# Altium integrated library Maxim Sensors.IntLib: 1171 symbols (part 8 of 61)
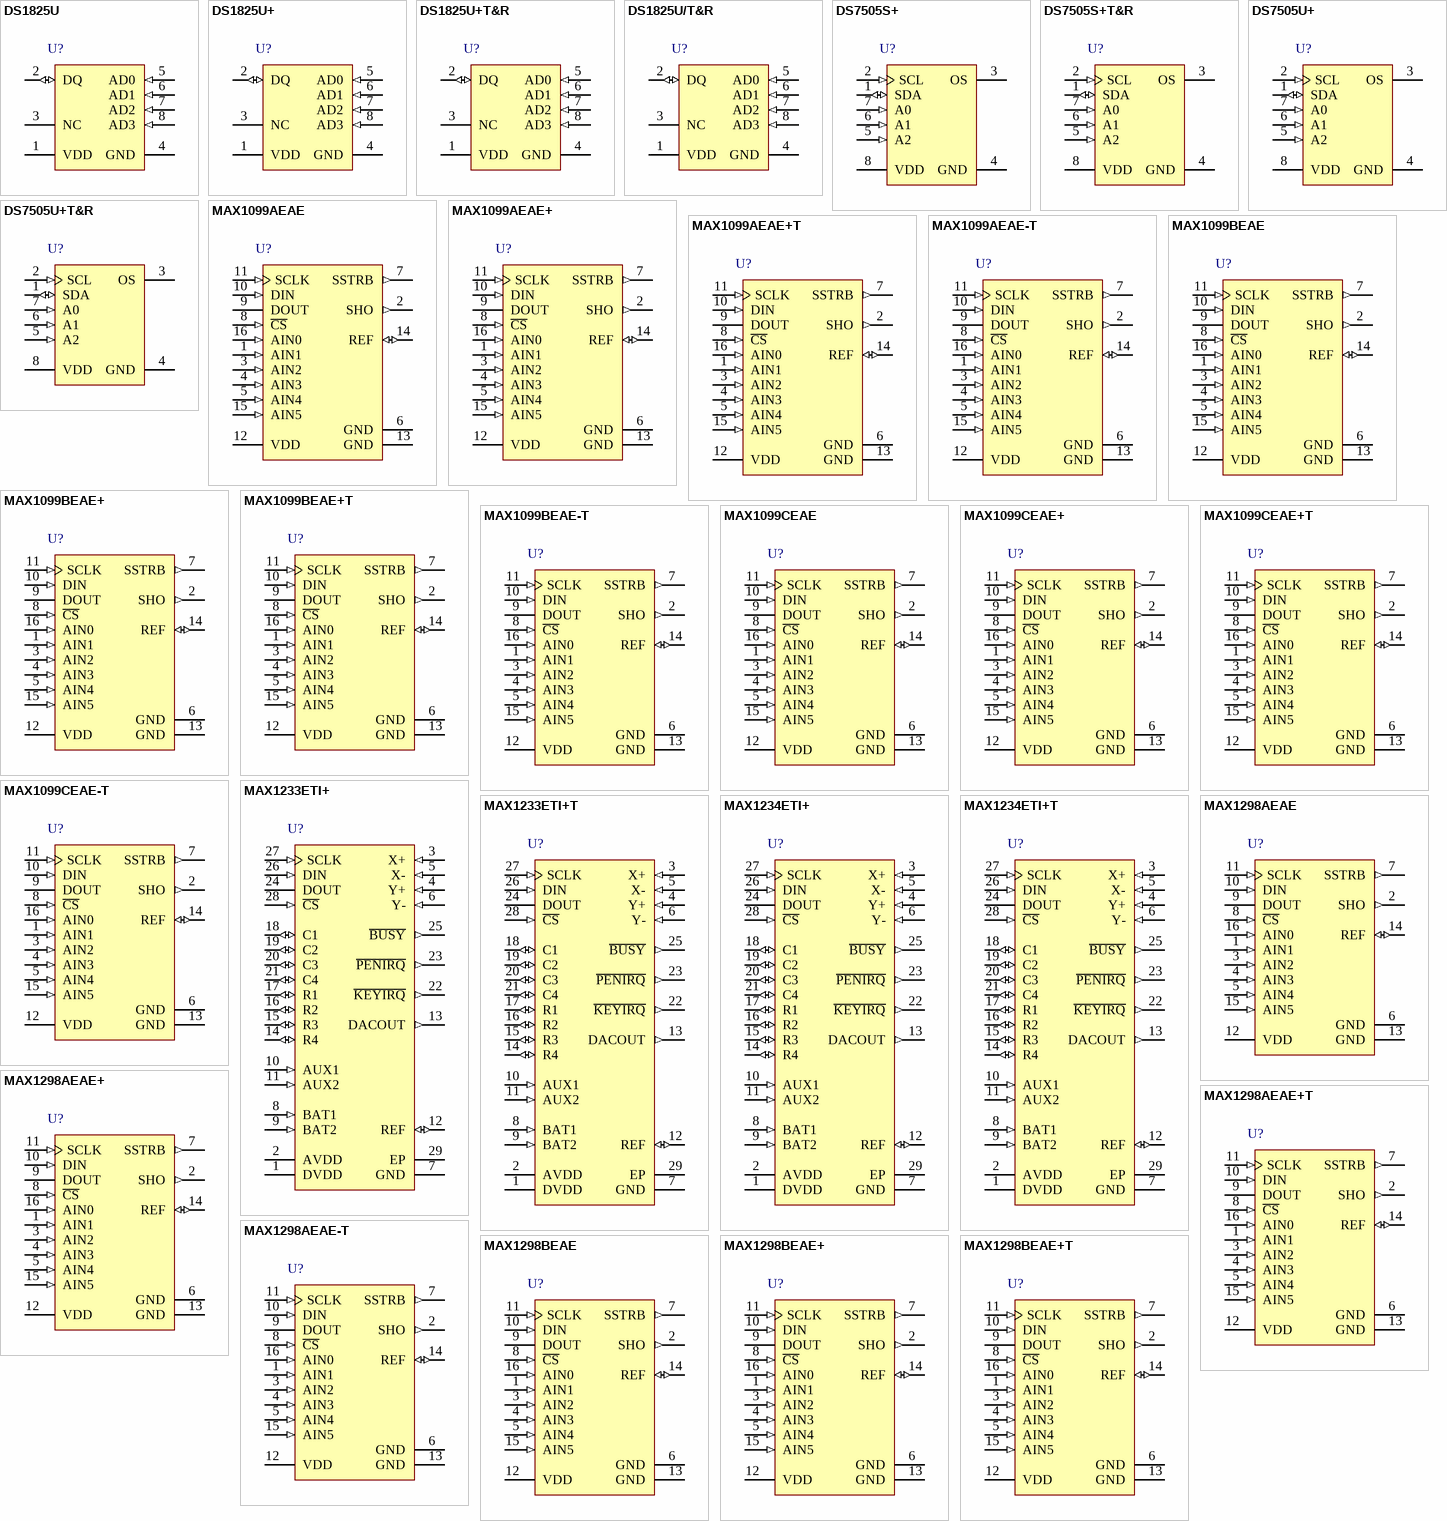
[diagram p40: symbols DS1825U to MAX1298BEAE+T]

## MAX1099CEAE+T
designator U?
Serial-Output Temperature Sensor with Five-Channel ADC, 10 Bits Temperature Resolution, -40 to 85 degC, 16-Pin SOP (A16+3), Pb-Free, Tape and Reel; Generic Part Number: MAX1099C; PartNumber: MAX1099CEAE+T; Interface: 3-Wire/SPI; Parasite Pwr.: No; DatasheetVersion: Rev. 0; PackageVersion: Rev. C, 02/2010; PackageReference: A16+3; PackageDescription: 16-Pin Shrink Small-Outline Package, Body 5.29 x 6.2 mm, Pitch 0.65 mm; Supplier 1: Digi-Key; Supplier Part Number 1: MAX1099CEAE+T-ND; Supplier 2: Mouser; Supplier Part Number 2: 700-MAX1099CEAE+T; Packing: Tape and Reel; Mounting Technology: Surface Mount; Code_JEDEC: MO-150; ComponentLink1Description: Manufacturer URL; ComponentLink1URL: http://www.maximintegrated.com/; ComponentLink2Description: Datasheet; ComponentLink2URL: http://datasheets.maximintegrated.com/en/ds/MAX1098-MAX1099C.pdf; ComponentLink3Description: Package Specification; ComponentLink3URL: http://pdfserv.maximintegrated.com/package_dwgs/21-0056.PDF
footprint MAXM-A16+3_N (SOP, 16-Leads, Body 6.2x5.29mm, Pitch 0.65mm, IPC Medium Density)
footprint MAXM-A16+3_L (SOP, 16-Leads, Body 6.2x5.29mm, Pitch 0.65mm, IPC High Density)
footprint MAXM-A16+3_M (SOP, 16-Leads, Body 6.2x5.29mm, Pitch 0.65mm, IPC Low Density)
pins: 1 AIN1 (in) "Analog Input 1. Negative differential input relative to AIN0 or positive differential input relative to AIN5 (Table 5). Connect to the cathode of external diode 1 for remote temperature sensing", 2 SHO (out) "Shield Output. Used to suppress leakage currents at the anodes of remote temperature sensors (see Remote Diode Shielding). May also be connected to the shield of twisted-pair input cables used for remote temperature (See Datasheet)", 3 AIN2 (in) "Analog Input 2. Positive differential input relative to AIN3 or positive differential input relative to AIN5 (Table 5). Connect to the anode of external diode 2 for remote temperature sensing.", 4 AIN3 (in) "Analog Input 3. Negative differential input relative to AIN2 or positive differential input relative to AIN5 (Table 5). Connect to the cathode of external diode 2 for remote temperature sensing.", 5 AIN4 (in) "Analog input 4. Positive differential input relative to AIN5 (Table 5).", 6 GND (power) "Ground. Connect to pin 13.", 7 SSTRB (out) "Serial Strobe Output. SSTRB goes low at the beginning of an A/D conversion, and it goes high when the conversion is finished.", 8 ~{CS} (in) "Active-Low Chip Select. Data will not be clocked into DIN unless C\S\ is low. When C\S\ is high, DOUT is at high impedance.", 9 DOUT (hiz) "Serial Data Output. DOUT transitions on the falling edge of SCLK.", 10 DIN (in) "Serial Data Input. DIN latches data on the rising edge of SCLK. 11 SCLK Serial Clock Input. Clocks data in and out of the serial interface.", 11 SCLK (in) "Serial Clock Input. Clocks data in and out of the serial interface.", 12 VDD (power) "Positive Supply Voltage. Bypass with a 0.1uF capacitor to GND (pin 13).", 13 GND (power) "Ground (star ground)", 14 REF (io) "Reference-Buffer Output/ADC Reference Input. Reference voltage for A/D conversion. Bypass to GND (pin 13) with a 0.1uF capacitor. Select reference mode by writing to configuration byte (Table 2).", 15 AIN5 (in) "Analog Input 5. Negative differential input relative to AIN0-AIN4 (Table 5).", 16 AIN0 (in) "Analog Input 0. Positive differential input relative to AIN1 or positive differential input relative to AIN5 (Table 5). Connect to the anode of external diode 1 for remote temperature sensing."

## MAX1099CEAE-T
designator U?
Serial-Output Temperature Sensor with Five-Channel ADC, 10 Bits Temperature Resolution, -40 to 85 degC, 16-Pin SOP (A16-3), Tape and Reel; Generic Part Number: MAX1099C; PartNumber: MAX1099CEAE-T; Interface: 3-Wire/SPI; Parasite Pwr.: No; DatasheetVersion: Rev. 0; PackageVersion: Rev. C, 02/2010; PackageReference: A16-3; PackageDescription: 16-Pin Shrink Small-Outline Package, Body 5.29 x 6.2 mm, Pitch 0.65 mm; Supplier 1: Mouser; Supplier Part Number 1: N/A; Packing: Tape and Reel; Mounting Technology: Surface Mount; Code_JEDEC: MO-150; ComponentLink1Description: Manufacturer URL; ComponentLink1URL: http://www.maximintegrated.com/; ComponentLink2Description: Datasheet; ComponentLink2URL: http://datasheets.maximintegrated.com/en/ds/MAX1098-MAX1099C.pdf; ComponentLink3Description: Package Specification; ComponentLink3URL: http://pdfserv.maximintegrated.com/package_dwgs/21-0056.PDF
footprint MAXM-A16-3_N (SOP, 16-Leads, Body 6.2x5.29mm, Pitch 0.65mm, IPC Medium Density)
footprint MAXM-A16-3_L (SOP, 16-Leads, Body 6.2x5.29mm, Pitch 0.65mm, IPC High Density)
footprint MAXM-A16-3_M (SOP, 16-Leads, Body 6.2x5.29mm, Pitch 0.65mm, IPC Low Density)
pins: 1 AIN1 (in) "Analog Input 1. Negative differential input relative to AIN0 or positive differential input relative to AIN5 (Table 5). Connect to the cathode of external diode 1 for remote temperature sensing", 2 SHO (out) "Shield Output. Used to suppress leakage currents at the anodes of remote temperature sensors (see Remote Diode Shielding). May also be connected to the shield of twisted-pair input cables used for remote temperature (See Datasheet)", 3 AIN2 (in) "Analog Input 2. Positive differential input relative to AIN3 or positive differential input relative to AIN5 (Table 5). Connect to the anode of external diode 2 for remote temperature sensing.", 4 AIN3 (in) "Analog Input 3. Negative differential input relative to AIN2 or positive differential input relative to AIN5 (Table 5). Connect to the cathode of external diode 2 for remote temperature sensing.", 5 AIN4 (in) "Analog input 4. Positive differential input relative to AIN5 (Table 5).", 6 GND (power) "Ground. Connect to pin 13.", 7 SSTRB (out) "Serial Strobe Output. SSTRB goes low at the beginning of an A/D conversion, and it goes high when the conversion is finished.", 8 ~{CS} (in) "Active-Low Chip Select. Data will not be clocked into DIN unless C\S\ is low. When C\S\ is high, DOUT is at high impedance.", 9 DOUT (hiz) "Serial Data Output. DOUT transitions on the falling edge of SCLK.", 10 DIN (in) "Serial Data Input. DIN latches data on the rising edge of SCLK. 11 SCLK Serial Clock Input. Clocks data in and out of the serial interface.", 11 SCLK (in) "Serial Clock Input. Clocks data in and out of the serial interface.", 12 VDD (power) "Positive Supply Voltage. Bypass with a 0.1uF capacitor to GND (pin 13).", 13 GND (power) "Ground (star ground)", 14 REF (io) "Reference-Buffer Output/ADC Reference Input. Reference voltage for A/D conversion. Bypass to GND (pin 13) with a 0.1uF capacitor. Select reference mode by writing to configuration byte (Table 2).", 15 AIN5 (in) "Analog Input 5. Negative differential input relative to AIN0-AIN4 (Table 5).", 16 AIN0 (in) "Analog Input 0. Positive differential input relative to AIN1 or positive differential input relative to AIN5 (Table 5). Connect to the anode of external diode 1 for remote temperature sensing."

## MAX1233ETI+
designator U?
4 Channels, 2.7 to 3.6 V, 4-Wire Touch-Screen Controller with Keypad Interface and Temperature Sensor, -40 to +85 degC, 28-Pin QFN (T2855+6), Pb-Free; Generic Part Number: MAX1233; PartNumber: MAX1233ETI+; Channels: 4; Controller Type: Resistive; EV Kit: Yes; Interface: Microwire, QSPI ,SPI; DatasheetVersion: Rev. 4; PackageVersion: Rev. Q, 09/2011; PackageReference: T2855+6; PackageDescription: 28-Pin Thin Quad Flatpack, No Leads, Body 5 x 5 mm, Pitch 0.5 mm; Supplier 1: Digi-Key; Supplier Part Number 1: MAX1233ETI+-ND; Supplier 2: Mouser; Supplier Part Number 2: 700-MAX1233ETI; Mounting Technology: Surface Mount; ComponentLink1Description: Manufacturer URL; ComponentLink1URL: http://www.maximintegrated.com/; ComponentLink2Description: Datasheet; ComponentLink2URL: http://datasheets.maximintegrated.com/en/ds/MAX1233-MAX1234.pdf; ComponentLink3Description: Package Specification; ComponentLink3URL: http://pdfserv.maximintegrated.com/package_dwgs/21-0140.PDF
footprint MAXM-T2855+6_N (QFN, 28-Leads, Body 5x5mm, Pitch 0.5mm, Thermal Pad 3.25x3.25mm, IPC Medium Density)
footprint MAXM-T2855+6_L (QFN, 28-Leads, Body 5x5mm, Pitch 0.5mm, Thermal Pad 3.25x3.25mm, IPC High Density)
footprint MAXM-T2855+6_M (QFN, 28-Leads, Body 5x5mm, Pitch 0.5mm, Thermal Pad 3.25x3.25mm, IPC Low Density)
pins: 1 DVDD (power) "Positive Digital Supply Voltage, +2.7V to +3.6V for MAX1233, +4.75V to +5.25V for MAX1234. Bypass with a 0.1uF capacitor. Must be within 300mV of AVDD.", 2 AVDD (power) "Positive Analog Supply Voltage, +2.7V to +3.6V for MAX1233, +4.75V to +5.25V for MAX1234. Bypass with a 0.1uF capacitor. Must be within 300mV of DVDD.", 3 X+ (in) "X+ Position Input", 4 Y+ (in) "Y+ Position Input", 5 X- (in) "X- Position Input", 6 Y- (in) "Y- Position Input", 7 GND (power) "Analog and Digital Ground", 8 BAT1 (in) "Battery Monitoring Input 1. Measures battery voltages up to 6V.", 9 BAT2 (in) "Battery Monitoring Input 2. Measures battery voltages up to 6V.", 10 AUX1 (in) "Auxiliary Analog Input 1 to ADC. Measures analog voltages from zero to VREF.", 11 AUX2 (in) "Auxiliary Analog Input 2 to ADC. Measures analog voltages from zero to VREF.", 12 REF (io) "Voltage Reference Output/Input. Reference voltage for analog-to-digital conversion. In internal reference mode, the reference buffer provides a 2.5V or 1.0V nominal output. In external reference mode, apply a reference (See Datasheet)", 13 DACOUT (out) "DAC Voltage Output; 0.9 x AVDD Full Scale", 14 R4 (io) "Keypad Row 4. Can be reconfigured as GPIO3.", 15 R3 (io) "Keypad Row 3. Can be reconfigured as GPIO2.", 16 R2 (io) "Keypad Row 2. Can be reconfigured as GPIO1.", 17 R1 (io) "Keypad Row 1. Can be reconfigured as GPIO0.", 18 C1 (io) "Keypad Column 1. Can be reconfigured as GPIO4.", 19 C2 (io) "Keypad Column 2. Can be reconfigured as GPIO5.", 20 C3 (io) "Keypad Column 3. Can be reconfigured as GPIO6.", 21 C4 (io) "Keypad Column 4. Can be reconfigured as GPIO7.", 22 ~{KEYIRQ} (out) "Active-Low Keypad Interrupt. K\E\Y\I\R\Q\ is low when a key press is detected.", 23 ~{PENIRQ} (out) "Active-Low Pen Touch Interrupt. P\E\N\I\R\Q\ is low when a screen touch is detected.", 24 DOUT (hiz) "Serial Data Output. Data is clocked out at SCLK falling edge. High impedance when C\S\ is high.", 25 ~{BUSY} (out) "Active-Low Busy Output. B\U\S\Y\ goes low and stays low during each functional operation. The host controller should wait until B\U\S\Y\ is high again before using the serial interface", 26 DIN (in) "Serial Data Input. Data is clocked in on the rising edge of SCLK.", 27 SCLK (in) "Serial Clock Input. Clocks data in and out of the serial interface and sets the conversion speed (duty cycle must be 30% to 70%).", 28 ~{CS} (in) "Active-Low Chip Select. Data is not clocked into DIN unless C\S\ is low. When C\S\ is high, DOUT is high impedance", 29 EP (power) "Exposed Pad. Internally connected to GND. Connect to a large ground plane to maximize thermal performance. Not intended as an electrical connection point."

## MAX1233ETI+T
designator U?
4 Channels, 2.7 to 3.6 V, 4-Wire Touch-Screen Controller with Keypad Interface and Temperature Sensor, -40 to +85 degC, 28-Pin QFN (T2855+6), Pb-Free, Tape and Reel; Generic Part Number: MAX1233; PartNumber: MAX1233ETI+T; Channels: 4; Controller Type: Resistive; EV Kit: Yes; Interface: Microwire, QSPI ,SPI; DatasheetVersion: Rev. 4; PackageVersion: Rev. Q, 09/2011; PackageReference: T2855+6; PackageDescription: 28-Pin Thin Quad Flatpack, No Leads, Body 5 x 5 mm, Pitch 0.5 mm; Supplier 1: Digi-Key; Supplier Part Number 1: MAX1233ETI+T-ND; Supplier 2: Mouser; Supplier Part Number 2: 700-MAX1233ETIT; Packing: Tape and Reel; Mounting Technology: Surface Mount; ComponentLink1Description: Manufacturer URL; ComponentLink1URL: http://www.maximintegrated.com/; ComponentLink2Description: Datasheet; ComponentLink2URL: http://datasheets.maximintegrated.com/en/ds/MAX1233-MAX1234.pdf; ComponentLink3Description: Package Specification; ComponentLink3URL: http://pdfserv.maximintegrated.com/package_dwgs/21-0140.PDF
footprint MAXM-T2855+6_N (QFN, 28-Leads, Body 5x5mm, Pitch 0.5mm, Thermal Pad 3.25x3.25mm, IPC Medium Density)
footprint MAXM-T2855+6_L (QFN, 28-Leads, Body 5x5mm, Pitch 0.5mm, Thermal Pad 3.25x3.25mm, IPC High Density)
footprint MAXM-T2855+6_M (QFN, 28-Leads, Body 5x5mm, Pitch 0.5mm, Thermal Pad 3.25x3.25mm, IPC Low Density)
pins: 1 DVDD (power) "Positive Digital Supply Voltage, +2.7V to +3.6V for MAX1233, +4.75V to +5.25V for MAX1234. Bypass with a 0.1uF capacitor. Must be within 300mV of AVDD.", 2 AVDD (power) "Positive Analog Supply Voltage, +2.7V to +3.6V for MAX1233, +4.75V to +5.25V for MAX1234. Bypass with a 0.1uF capacitor. Must be within 300mV of DVDD.", 3 X+ (in) "X+ Position Input", 4 Y+ (in) "Y+ Position Input", 5 X- (in) "X- Position Input", 6 Y- (in) "Y- Position Input", 7 GND (power) "Analog and Digital Ground", 8 BAT1 (in) "Battery Monitoring Input 1. Measures battery voltages up to 6V.", 9 BAT2 (in) "Battery Monitoring Input 2. Measures battery voltages up to 6V.", 10 AUX1 (in) "Auxiliary Analog Input 1 to ADC. Measures analog voltages from zero to VREF.", 11 AUX2 (in) "Auxiliary Analog Input 2 to ADC. Measures analog voltages from zero to VREF.", 12 REF (io) "Voltage Reference Output/Input. Reference voltage for analog-to-digital conversion. In internal reference mode, the reference buffer provides a 2.5V or 1.0V nominal output. In external reference mode, apply a reference (See Datasheet)", 13 DACOUT (out) "DAC Voltage Output; 0.9 x AVDD Full Scale", 14 R4 (io) "Keypad Row 4. Can be reconfigured as GPIO3.", 15 R3 (io) "Keypad Row 3. Can be reconfigured as GPIO2.", 16 R2 (io) "Keypad Row 2. Can be reconfigured as GPIO1.", 17 R1 (io) "Keypad Row 1. Can be reconfigured as GPIO0.", 18 C1 (io) "Keypad Column 1. Can be reconfigured as GPIO4.", 19 C2 (io) "Keypad Column 2. Can be reconfigured as GPIO5.", 20 C3 (io) "Keypad Column 3. Can be reconfigured as GPIO6.", 21 C4 (io) "Keypad Column 4. Can be reconfigured as GPIO7.", 22 ~{KEYIRQ} (out) "Active-Low Keypad Interrupt. K\E\Y\I\R\Q\ is low when a key press is detected.", 23 ~{PENIRQ} (out) "Active-Low Pen Touch Interrupt. P\E\N\I\R\Q\ is low when a screen touch is detected.", 24 DOUT (hiz) "Serial Data Output. Data is clocked out at SCLK falling edge. High impedance when C\S\ is high.", 25 ~{BUSY} (out) "Active-Low Busy Output. B\U\S\Y\ goes low and stays low during each functional operation. The host controller should wait until B\U\S\Y\ is high again before using the serial interface", 26 DIN (in) "Serial Data Input. Data is clocked in on the rising edge of SCLK.", 27 SCLK (in) "Serial Clock Input. Clocks data in and out of the serial interface and sets the conversion speed (duty cycle must be 30% to 70%).", 28 ~{CS} (in) "Active-Low Chip Select. Data is not clocked into DIN unless C\S\ is low. When C\S\ is high, DOUT is high impedance", 29 EP (power) "Exposed Pad. Internally connected to GND. Connect to a large ground plane to maximize thermal performance. Not intended as an electrical connection point."

## MAX1234ETI+
designator U?
4 Channels, 4.75 to 5.25 V, 4-Wire Touch-Screen Controller with Keypad Interface and Temperature Sensor, -40 to +85 degC, 28-Pin QFN (T2855+6), Pb-Free; Generic Part Number: MAX1234; PartNumber: MAX1234ETI+; Channels: 4; Controller Type: Resistive; EV Kit: Yes; Interface: Microwire, QSPI ,SPI; DatasheetVersion: Rev. 4; PackageVersion: Rev. Q, 09/2011; PackageReference: T2855+6; PackageDescription: 28-Pin Thin Quad Flatpack, No Leads, Body 5 x 5 mm, Pitch 0.5 mm; Supplier 1: Digi-Key; Supplier Part Number 1: MAX1234ETI+-ND; Supplier 2: Mouser; Supplier Part Number 2: 700-MAX1234ETI; Mounting Technology: Surface Mount; ComponentLink1Description: Manufacturer URL; ComponentLink1URL: http://www.maximintegrated.com/; ComponentLink2Description: Datasheet; ComponentLink2URL: http://datasheets.maximintegrated.com/en/ds/MAX1233-MAX1234.pdf; ComponentLink3Description: Package Specification; ComponentLink3URL: http://pdfserv.maximintegrated.com/package_dwgs/21-0140.PDF
footprint MAXM-T2855+6_N (QFN, 28-Leads, Body 5x5mm, Pitch 0.5mm, Thermal Pad 3.25x3.25mm, IPC Medium Density)
footprint MAXM-T2855+6_L (QFN, 28-Leads, Body 5x5mm, Pitch 0.5mm, Thermal Pad 3.25x3.25mm, IPC High Density)
footprint MAXM-T2855+6_M (QFN, 28-Leads, Body 5x5mm, Pitch 0.5mm, Thermal Pad 3.25x3.25mm, IPC Low Density)
pins: 1 DVDD (power) "Positive Digital Supply Voltage, +2.7V to +3.6V for MAX1233, +4.75V to +5.25V for MAX1234. Bypass with a 0.1uF capacitor. Must be within 300mV of AVDD.", 2 AVDD (power) "Positive Analog Supply Voltage, +2.7V to +3.6V for MAX1233, +4.75V to +5.25V for MAX1234. Bypass with a 0.1uF capacitor. Must be within 300mV of DVDD.", 3 X+ (in) "X+ Position Input", 4 Y+ (in) "Y+ Position Input", 5 X- (in) "X- Position Input", 6 Y- (in) "Y- Position Input", 7 GND (power) "Analog and Digital Ground", 8 BAT1 (in) "Battery Monitoring Input 1. Measures battery voltages up to 6V.", 9 BAT2 (in) "Battery Monitoring Input 2. Measures battery voltages up to 6V.", 10 AUX1 (in) "Auxiliary Analog Input 1 to ADC. Measures analog voltages from zero to VREF.", 11 AUX2 (in) "Auxiliary Analog Input 2 to ADC. Measures analog voltages from zero to VREF.", 12 REF (io) "Voltage Reference Output/Input. Reference voltage for analog-to-digital conversion. In internal reference mode, the reference buffer provides a 2.5V or 1.0V nominal output. In external reference mode, apply a reference (See Datasheet)", 13 DACOUT (out) "DAC Voltage Output; 0.9 x AVDD Full Scale", 14 R4 (io) "Keypad Row 4. Can be reconfigured as GPIO3.", 15 R3 (io) "Keypad Row 3. Can be reconfigured as GPIO2.", 16 R2 (io) "Keypad Row 2. Can be reconfigured as GPIO1.", 17 R1 (io) "Keypad Row 1. Can be reconfigured as GPIO0.", 18 C1 (io) "Keypad Column 1. Can be reconfigured as GPIO4.", 19 C2 (io) "Keypad Column 2. Can be reconfigured as GPIO5.", 20 C3 (io) "Keypad Column 3. Can be reconfigured as GPIO6.", 21 C4 (io) "Keypad Column 4. Can be reconfigured as GPIO7.", 22 ~{KEYIRQ} (out) "Active-Low Keypad Interrupt. K\E\Y\I\R\Q\ is low when a key press is detected.", 23 ~{PENIRQ} (out) "Active-Low Pen Touch Interrupt. P\E\N\I\R\Q\ is low when a screen touch is detected.", 24 DOUT (hiz) "Serial Data Output. Data is clocked out at SCLK falling edge. High impedance when C\S\ is high.", 25 ~{BUSY} (out) "Active-Low Busy Output. B\U\S\Y\ goes low and stays low during each functional operation. The host controller should wait until B\U\S\Y\ is high again before using the serial interface", 26 DIN (in) "Serial Data Input. Data is clocked in on the rising edge of SCLK.", 27 SCLK (in) "Serial Clock Input. Clocks data in and out of the serial interface and sets the conversion speed (duty cycle must be 30% to 70%).", 28 ~{CS} (in) "Active-Low Chip Select. Data is not clocked into DIN unless C\S\ is low. When C\S\ is high, DOUT is high impedance", 29 EP (power) "Exposed Pad. Internally connected to GND. Connect to a large ground plane to maximize thermal performance. Not intended as an electrical connection point."

## MAX1234ETI+T
designator U?
4 Channels, 4.75 to 5.25 V, 4-Wire Touch-Screen Controller with Keypad Interface and Temperature Sensor, -40 to +85 degC, 28-Pin QFN (T2855+6), Pb-Free, Tape and Reel; Generic Part Number: MAX1234; PartNumber: MAX1234ETI+T; Channels: 4; Controller Type: Resistive; EV Kit: Yes; Interface: Microwire, QSPI ,SPI; DatasheetVersion: Rev. 4; PackageVersion: Rev. Q, 09/2011; PackageReference: T2855+6; PackageDescription: 28-Pin Thin Quad Flatpack, No Leads, Body 5 x 5 mm, Pitch 0.5 mm; Supplier 1: Digi-Key; Supplier Part Number 1: MAX1234ETI+T-ND; Supplier 2: Mouser; Supplier Part Number 2: 700-MAX1234ETIT; Packing: Tape and Reel; Mounting Technology: Surface Mount; ComponentLink1Description: Manufacturer URL; ComponentLink1URL: http://www.maximintegrated.com/; ComponentLink2Description: Datasheet; ComponentLink2URL: http://datasheets.maximintegrated.com/en/ds/MAX1233-MAX1234.pdf; ComponentLink3Description: Package Specification; ComponentLink3URL: http://pdfserv.maximintegrated.com/package_dwgs/21-0140.PDF
footprint MAXM-T2855+6_N (QFN, 28-Leads, Body 5x5mm, Pitch 0.5mm, Thermal Pad 3.25x3.25mm, IPC Medium Density)
footprint MAXM-T2855+6_L (QFN, 28-Leads, Body 5x5mm, Pitch 0.5mm, Thermal Pad 3.25x3.25mm, IPC High Density)
footprint MAXM-T2855+6_M (QFN, 28-Leads, Body 5x5mm, Pitch 0.5mm, Thermal Pad 3.25x3.25mm, IPC Low Density)
pins: 1 DVDD (power) "Positive Digital Supply Voltage, +2.7V to +3.6V for MAX1233, +4.75V to +5.25V for MAX1234. Bypass with a 0.1uF capacitor. Must be within 300mV of AVDD.", 2 AVDD (power) "Positive Analog Supply Voltage, +2.7V to +3.6V for MAX1233, +4.75V to +5.25V for MAX1234. Bypass with a 0.1uF capacitor. Must be within 300mV of DVDD.", 3 X+ (in) "X+ Position Input", 4 Y+ (in) "Y+ Position Input", 5 X- (in) "X- Position Input", 6 Y- (in) "Y- Position Input", 7 GND (power) "Analog and Digital Ground", 8 BAT1 (in) "Battery Monitoring Input 1. Measures battery voltages up to 6V.", 9 BAT2 (in) "Battery Monitoring Input 2. Measures battery voltages up to 6V.", 10 AUX1 (in) "Auxiliary Analog Input 1 to ADC. Measures analog voltages from zero to VREF.", 11 AUX2 (in) "Auxiliary Analog Input 2 to ADC. Measures analog voltages from zero to VREF.", 12 REF (io) "Voltage Reference Output/Input. Reference voltage for analog-to-digital conversion. In internal reference mode, the reference buffer provides a 2.5V or 1.0V nominal output. In external reference mode, apply a reference (See Datasheet)", 13 DACOUT (out) "DAC Voltage Output; 0.9 x AVDD Full Scale", 14 R4 (io) "Keypad Row 4. Can be reconfigured as GPIO3.", 15 R3 (io) "Keypad Row 3. Can be reconfigured as GPIO2.", 16 R2 (io) "Keypad Row 2. Can be reconfigured as GPIO1.", 17 R1 (io) "Keypad Row 1. Can be reconfigured as GPIO0.", 18 C1 (io) "Keypad Column 1. Can be reconfigured as GPIO4.", 19 C2 (io) "Keypad Column 2. Can be reconfigured as GPIO5.", 20 C3 (io) "Keypad Column 3. Can be reconfigured as GPIO6.", 21 C4 (io) "Keypad Column 4. Can be reconfigured as GPIO7.", 22 ~{KEYIRQ} (out) "Active-Low Keypad Interrupt. K\E\Y\I\R\Q\ is low when a key press is detected.", 23 ~{PENIRQ} (out) "Active-Low Pen Touch Interrupt. P\E\N\I\R\Q\ is low when a screen touch is detected.", 24 DOUT (hiz) "Serial Data Output. Data is clocked out at SCLK falling edge. High impedance when C\S\ is high.", 25 ~{BUSY} (out) "Active-Low Busy Output. B\U\S\Y\ goes low and stays low during each functional operation. The host controller should wait until B\U\S\Y\ is high again before using the serial interface", 26 DIN (in) "Serial Data Input. Data is clocked in on the rising edge of SCLK.", 27 SCLK (in) "Serial Clock Input. Clocks data in and out of the serial interface and sets the conversion speed (duty cycle must be 30% to 70%).", 28 ~{CS} (in) "Active-Low Chip Select. Data is not clocked into DIN unless C\S\ is low. When C\S\ is high, DOUT is high impedance", 29 EP (power) "Exposed Pad. Internally connected to GND. Connect to a large ground plane to maximize thermal performance. Not intended as an electrical connection point."

## MAX1298AEAE
designator U?
Serial-Output Temperature Sensor with Five-Channel ADC, 12 Bits Temperature Resolution, -40 to 85 degC, 16-Pin SOP (A16-3); Generic Part Number: MAX1298A; PartNumber: MAX1298AEAE; Interface: 3-Wire/SPI; Parasite Pwr.: No; DatasheetVersion: Rev. 1; PackageVersion: Rev. C, 02/2010; PackageReference: A16-3; PackageDescription: 16-Pin Shrink Small-Outline Package, Body 5.29 x 6.2 mm, Pitch 0.65 mm; Supplier 1: Mouser; Supplier Part Number 1: N/A; Mounting Technology: Surface Mount; Code_JEDEC: MO-150; ComponentLink1Description: Manufacturer URL; ComponentLink1URL: http://www.maximintegrated.com/; ComponentLink2Description: Datasheet; ComponentLink2URL: http://datasheets.maximintegrated.com/en/ds/MAX1298-MAX1299C.pdf; ComponentLink3Description: Package Specification; ComponentLink3URL: http://pdfserv.maximintegrated.com/package_dwgs/21-0056.PDF
footprint MAXM-A16-3_N (SOP, 16-Leads, Body 6.2x5.29mm, Pitch 0.65mm, IPC Medium Density)
footprint MAXM-A16-3_L (SOP, 16-Leads, Body 6.2x5.29mm, Pitch 0.65mm, IPC High Density)
footprint MAXM-A16-3_M (SOP, 16-Leads, Body 6.2x5.29mm, Pitch 0.65mm, IPC Low Density)
pins: 1 AIN1 (in) "Analog Input 1. Negative differential input relative to AIN0 or positive differential input relative to AIN5 (Table 5). Connect to the cathode of external diode 1 for remote temperature sensing", 2 SHO (out) "Shield Output. Used to suppress leakage currents at the anodes of remote temperature sensors (see Remote Diode Shielding). May also be connected to the shield of twisted-pair input cables used for remote temperature (See Datasheet)", 3 AIN2 (in) "Analog Input 2. Positive differential input relative to AIN3 or positive differential input relative to AIN5 (Table 5). Connect to the anode of external diode 2 for remote temperature sensing.", 4 AIN3 (in) "Analog Input 3. Negative differential input relative to AIN2 or positive differential input relative to AIN5 (Table 5). Connect to the cathode of external diode 2 for remote temperature sensing.", 5 AIN4 (in) "Analog input 4. Positive differential input relative to AIN5 (Table 5).", 6 GND (power) "Ground. Connect to pin 13.", 7 SSTRB (out) "Serial Strobe Output. SSTRB goes low at the beginning of an A/D conversion, and it goes high when the conversion is finished.", 8 ~{CS} (in) "Active-Low Chip Select. Data will not be clocked into DIN unless C\S\ is low. When C\S\ is high, DOUT is at high impedance.", 9 DOUT (hiz) "Serial Data Output. DOUT transitions on the falling edge of SCLK.", 10 DIN (in) "Serial Data Input. DIN latches data on the rising edge of SCLK. 11 SCLK Serial Clock Input. Clocks data in and out of the serial interface.", 11 SCLK (in) "Serial Clock Input. Clocks data in and out of the serial interface.", 12 VDD (power) "Positive Supply Voltage. Bypass with a 0.1uF capacitor to GND (pin 13).", 13 GND (power) "Ground (star ground)", 14 REF (io) "Reference-Buffer Output/ADC Reference Input. Reference voltage for A/D conversion. Bypass to GND (pin 13) with a 0.1uF capacitor. Select reference mode by writing to configuration byte (Table 2).", 15 AIN5 (in) "Analog Input 5. Negative differential input relative to AIN0-AIN4 (Table 5).", 16 AIN0 (in) "Analog Input 0. Positive differential input relative to AIN1 or positive differential input relative to AIN5 (Table 5). Connect to the anode of external diode 1 for remote temperature sensing."

## MAX1298AEAE+
designator U?
Serial-Output Temperature Sensor with Five-Channel ADC, 12 Bits Temperature Resolution, -40 to 85 degC, 16-Pin SOP (A16+3), Pb-Free; Generic Part Number: MAX1298A; PartNumber: MAX1298AEAE+; Interface: 3-Wire/SPI; Parasite Pwr.: No; DatasheetVersion: Rev. 1; PackageVersion: Rev. C, 02/2010; PackageReference: A16+3; PackageDescription: 16-Pin Shrink Small-Outline Package, Body 5.29 x 6.2 mm, Pitch 0.65 mm; Supplier 1: Mouser; Supplier Part Number 1: N/A; Mounting Technology: Surface Mount; Code_JEDEC: MO-150; ComponentLink1Description: Manufacturer URL; ComponentLink1URL: http://www.maximintegrated.com/; ComponentLink2Description: Datasheet; ComponentLink2URL: http://datasheets.maximintegrated.com/en/ds/MAX1298-MAX1299C.pdf; ComponentLink3Description: Package Specification; ComponentLink3URL: http://pdfserv.maximintegrated.com/package_dwgs/21-0056.PDF
footprint MAXM-A16+3_N (SOP, 16-Leads, Body 6.2x5.29mm, Pitch 0.65mm, IPC Medium Density)
footprint MAXM-A16+3_L (SOP, 16-Leads, Body 6.2x5.29mm, Pitch 0.65mm, IPC High Density)
footprint MAXM-A16+3_M (SOP, 16-Leads, Body 6.2x5.29mm, Pitch 0.65mm, IPC Low Density)
pins: 1 AIN1 (in) "Analog Input 1. Negative differential input relative to AIN0 or positive differential input relative to AIN5 (Table 5). Connect to the cathode of external diode 1 for remote temperature sensing", 2 SHO (out) "Shield Output. Used to suppress leakage currents at the anodes of remote temperature sensors (see Remote Diode Shielding). May also be connected to the shield of twisted-pair input cables used for remote temperature (See Datasheet)", 3 AIN2 (in) "Analog Input 2. Positive differential input relative to AIN3 or positive differential input relative to AIN5 (Table 5). Connect to the anode of external diode 2 for remote temperature sensing.", 4 AIN3 (in) "Analog Input 3. Negative differential input relative to AIN2 or positive differential input relative to AIN5 (Table 5). Connect to the cathode of external diode 2 for remote temperature sensing.", 5 AIN4 (in) "Analog input 4. Positive differential input relative to AIN5 (Table 5).", 6 GND (power) "Ground. Connect to pin 13.", 7 SSTRB (out) "Serial Strobe Output. SSTRB goes low at the beginning of an A/D conversion, and it goes high when the conversion is finished.", 8 ~{CS} (in) "Active-Low Chip Select. Data will not be clocked into DIN unless C\S\ is low. When C\S\ is high, DOUT is at high impedance.", 9 DOUT (hiz) "Serial Data Output. DOUT transitions on the falling edge of SCLK.", 10 DIN (in) "Serial Data Input. DIN latches data on the rising edge of SCLK. 11 SCLK Serial Clock Input. Clocks data in and out of the serial interface.", 11 SCLK (in) "Serial Clock Input. Clocks data in and out of the serial interface.", 12 VDD (power) "Positive Supply Voltage. Bypass with a 0.1uF capacitor to GND (pin 13).", 13 GND (power) "Ground (star ground)", 14 REF (io) "Reference-Buffer Output/ADC Reference Input. Reference voltage for A/D conversion. Bypass to GND (pin 13) with a 0.1uF capacitor. Select reference mode by writing to configuration byte (Table 2).", 15 AIN5 (in) "Analog Input 5. Negative differential input relative to AIN0-AIN4 (Table 5).", 16 AIN0 (in) "Analog Input 0. Positive differential input relative to AIN1 or positive differential input relative to AIN5 (Table 5). Connect to the anode of external diode 1 for remote temperature sensing."

## MAX1298AEAE+T
designator U?
Serial-Output Temperature Sensor with Five-Channel ADC, 12 Bits Temperature Resolution, -40 to 85 degC, 16-Pin SOP (A16+3), Pb-Free, Tape and Reel; Generic Part Number: MAX1298A; PartNumber: MAX1298AEAE+T; Interface: 3-Wire/SPI; Parasite Pwr.: No; DatasheetVersion: Rev. 1; PackageVersion: Rev. C, 02/2010; PackageReference: A16+3; PackageDescription: 16-Pin Shrink Small-Outline Package, Body 5.29 x 6.2 mm, Pitch 0.65 mm; Supplier 1: Mouser; Supplier Part Number 1: N/A; Packing: Tape and Reel; Mounting Technology: Surface Mount; Code_JEDEC: MO-150; ComponentLink1Description: Manufacturer URL; ComponentLink1URL: http://www.maximintegrated.com/; ComponentLink2Description: Datasheet; ComponentLink2URL: http://datasheets.maximintegrated.com/en/ds/MAX1298-MAX1299C.pdf; ComponentLink3Description: Package Specification; ComponentLink3URL: http://pdfserv.maximintegrated.com/package_dwgs/21-0056.PDF
footprint MAXM-A16+3_N (SOP, 16-Leads, Body 6.2x5.29mm, Pitch 0.65mm, IPC Medium Density)
footprint MAXM-A16+3_L (SOP, 16-Leads, Body 6.2x5.29mm, Pitch 0.65mm, IPC High Density)
footprint MAXM-A16+3_M (SOP, 16-Leads, Body 6.2x5.29mm, Pitch 0.65mm, IPC Low Density)
pins: 1 AIN1 (in) "Analog Input 1. Negative differential input relative to AIN0 or positive differential input relative to AIN5 (Table 5). Connect to the cathode of external diode 1 for remote temperature sensing", 2 SHO (out) "Shield Output. Used to suppress leakage currents at the anodes of remote temperature sensors (see Remote Diode Shielding). May also be connected to the shield of twisted-pair input cables used for remote temperature (See Datasheet)", 3 AIN2 (in) "Analog Input 2. Positive differential input relative to AIN3 or positive differential input relative to AIN5 (Table 5). Connect to the anode of external diode 2 for remote temperature sensing.", 4 AIN3 (in) "Analog Input 3. Negative differential input relative to AIN2 or positive differential input relative to AIN5 (Table 5). Connect to the cathode of external diode 2 for remote temperature sensing.", 5 AIN4 (in) "Analog input 4. Positive differential input relative to AIN5 (Table 5).", 6 GND (power) "Ground. Connect to pin 13.", 7 SSTRB (out) "Serial Strobe Output. SSTRB goes low at the beginning of an A/D conversion, and it goes high when the conversion is finished.", 8 ~{CS} (in) "Active-Low Chip Select. Data will not be clocked into DIN unless C\S\ is low. When C\S\ is high, DOUT is at high impedance.", 9 DOUT (hiz) "Serial Data Output. DOUT transitions on the falling edge of SCLK.", 10 DIN (in) "Serial Data Input. DIN latches data on the rising edge of SCLK. 11 SCLK Serial Clock Input. Clocks data in and out of the serial interface.", 11 SCLK (in) "Serial Clock Input. Clocks data in and out of the serial interface.", 12 VDD (power) "Positive Supply Voltage. Bypass with a 0.1uF capacitor to GND (pin 13).", 13 GND (power) "Ground (star ground)", 14 REF (io) "Reference-Buffer Output/ADC Reference Input. Reference voltage for A/D conversion. Bypass to GND (pin 13) with a 0.1uF capacitor. Select reference mode by writing to configuration byte (Table 2).", 15 AIN5 (in) "Analog Input 5. Negative differential input relative to AIN0-AIN4 (Table 5).", 16 AIN0 (in) "Analog Input 0. Positive differential input relative to AIN1 or positive differential input relative to AIN5 (Table 5). Connect to the anode of external diode 1 for remote temperature sensing."

## MAX1298AEAE-T
designator U?
Serial-Output Temperature Sensor with Five-Channel ADC, 12 Bits Temperature Resolution, -40 to 85 degC, 16-Pin SOP (A16-3), Tape and Reel; Generic Part Number: MAX1298A; PartNumber: MAX1298AEAE-T; Interface: 3-Wire/SPI; Parasite Pwr.: No; DatasheetVersion: Rev. 1; PackageVersion: Rev. C, 02/2010; PackageReference: A16-3; PackageDescription: 16-Pin Shrink Small-Outline Package, Body 5.29 x 6.2 mm, Pitch 0.65 mm; Supplier 1: Mouser; Supplier Part Number 1: N/A; Packing: Tape and Reel; Mounting Technology: Surface Mount; Code_JEDEC: MO-150; ComponentLink1Description: Manufacturer URL; ComponentLink1URL: http://www.maximintegrated.com/; ComponentLink2Description: Datasheet; ComponentLink2URL: http://datasheets.maximintegrated.com/en/ds/MAX1298-MAX1299C.pdf; ComponentLink3Description: Package Specification; ComponentLink3URL: http://pdfserv.maximintegrated.com/package_dwgs/21-0056.PDF
footprint MAXM-A16-3_N (SOP, 16-Leads, Body 6.2x5.29mm, Pitch 0.65mm, IPC Medium Density)
footprint MAXM-A16-3_L (SOP, 16-Leads, Body 6.2x5.29mm, Pitch 0.65mm, IPC High Density)
footprint MAXM-A16-3_M (SOP, 16-Leads, Body 6.2x5.29mm, Pitch 0.65mm, IPC Low Density)
pins: 1 AIN1 (in) "Analog Input 1. Negative differential input relative to AIN0 or positive differential input relative to AIN5 (Table 5). Connect to the cathode of external diode 1 for remote temperature sensing", 2 SHO (out) "Shield Output. Used to suppress leakage currents at the anodes of remote temperature sensors (see Remote Diode Shielding). May also be connected to the shield of twisted-pair input cables used for remote temperature (See Datasheet)", 3 AIN2 (in) "Analog Input 2. Positive differential input relative to AIN3 or positive differential input relative to AIN5 (Table 5). Connect to the anode of external diode 2 for remote temperature sensing.", 4 AIN3 (in) "Analog Input 3. Negative differential input relative to AIN2 or positive differential input relative to AIN5 (Table 5). Connect to the cathode of external diode 2 for remote temperature sensing.", 5 AIN4 (in) "Analog input 4. Positive differential input relative to AIN5 (Table 5).", 6 GND (power) "Ground. Connect to pin 13.", 7 SSTRB (out) "Serial Strobe Output. SSTRB goes low at the beginning of an A/D conversion, and it goes high when the conversion is finished.", 8 ~{CS} (in) "Active-Low Chip Select. Data will not be clocked into DIN unless C\S\ is low. When C\S\ is high, DOUT is at high impedance.", 9 DOUT (hiz) "Serial Data Output. DOUT transitions on the falling edge of SCLK.", 10 DIN (in) "Serial Data Input. DIN latches data on the rising edge of SCLK. 11 SCLK Serial Clock Input. Clocks data in and out of the serial interface.", 11 SCLK (in) "Serial Clock Input. Clocks data in and out of the serial interface.", 12 VDD (power) "Positive Supply Voltage. Bypass with a 0.1uF capacitor to GND (pin 13).", 13 GND (power) "Ground (star ground)", 14 REF (io) "Reference-Buffer Output/ADC Reference Input. Reference voltage for A/D conversion. Bypass to GND (pin 13) with a 0.1uF capacitor. Select reference mode by writing to configuration byte (Table 2).", 15 AIN5 (in) "Analog Input 5. Negative differential input relative to AIN0-AIN4 (Table 5).", 16 AIN0 (in) "Analog Input 0. Positive differential input relative to AIN1 or positive differential input relative to AIN5 (Table 5). Connect to the anode of external diode 1 for remote temperature sensing."

## MAX1298BEAE
designator U?
Serial-Output Temperature Sensor with Five-Channel ADC, 12 Bits Temperature Resolution, -40 to 85 degC, 16-Pin SOP (A16-3); Generic Part Number: MAX1298B; PartNumber: MAX1298BEAE; Interface: 3-Wire/SPI; Parasite Pwr.: No; DatasheetVersion: Rev. 1; PackageVersion: Rev. C, 02/2010; PackageReference: A16-3; PackageDescription: 16-Pin Shrink Small-Outline Package, Body 5.29 x 6.2 mm, Pitch 0.65 mm; Supplier 1: Mouser; Supplier Part Number 1: N/A; Mounting Technology: Surface Mount; Code_JEDEC: MO-150; ComponentLink1Description: Manufacturer URL; ComponentLink1URL: http://www.maximintegrated.com/; ComponentLink2Description: Datasheet; ComponentLink2URL: http://datasheets.maximintegrated.com/en/ds/MAX1298-MAX1299C.pdf; ComponentLink3Description: Package Specification; ComponentLink3URL: http://pdfserv.maximintegrated.com/package_dwgs/21-0056.PDF
footprint MAXM-A16-3_N (SOP, 16-Leads, Body 6.2x5.29mm, Pitch 0.65mm, IPC Medium Density)
footprint MAXM-A16-3_L (SOP, 16-Leads, Body 6.2x5.29mm, Pitch 0.65mm, IPC High Density)
footprint MAXM-A16-3_M (SOP, 16-Leads, Body 6.2x5.29mm, Pitch 0.65mm, IPC Low Density)
pins: 1 AIN1 (in) "Analog Input 1. Negative differential input relative to AIN0 or positive differential input relative to AIN5 (Table 5). Connect to the cathode of external diode 1 for remote temperature sensing", 2 SHO (out) "Shield Output. Used to suppress leakage currents at the anodes of remote temperature sensors (see Remote Diode Shielding). May also be connected to the shield of twisted-pair input cables used for remote temperature (See Datasheet)", 3 AIN2 (in) "Analog Input 2. Positive differential input relative to AIN3 or positive differential input relative to AIN5 (Table 5). Connect to the anode of external diode 2 for remote temperature sensing.", 4 AIN3 (in) "Analog Input 3. Negative differential input relative to AIN2 or positive differential input relative to AIN5 (Table 5). Connect to the cathode of external diode 2 for remote temperature sensing.", 5 AIN4 (in) "Analog input 4. Positive differential input relative to AIN5 (Table 5).", 6 GND (power) "Ground. Connect to pin 13.", 7 SSTRB (out) "Serial Strobe Output. SSTRB goes low at the beginning of an A/D conversion, and it goes high when the conversion is finished.", 8 ~{CS} (in) "Active-Low Chip Select. Data will not be clocked into DIN unless C\S\ is low. When C\S\ is high, DOUT is at high impedance.", 9 DOUT (hiz) "Serial Data Output. DOUT transitions on the falling edge of SCLK.", 10 DIN (in) "Serial Data Input. DIN latches data on the rising edge of SCLK. 11 SCLK Serial Clock Input. Clocks data in and out of the serial interface.", 11 SCLK (in) "Serial Clock Input. Clocks data in and out of the serial interface.", 12 VDD (power) "Positive Supply Voltage. Bypass with a 0.1uF capacitor to GND (pin 13).", 13 GND (power) "Ground (star ground)", 14 REF (io) "Reference-Buffer Output/ADC Reference Input. Reference voltage for A/D conversion. Bypass to GND (pin 13) with a 0.1uF capacitor. Select reference mode by writing to configuration byte (Table 2).", 15 AIN5 (in) "Analog Input 5. Negative differential input relative to AIN0-AIN4 (Table 5).", 16 AIN0 (in) "Analog Input 0. Positive differential input relative to AIN1 or positive differential input relative to AIN5 (Table 5). Connect to the anode of external diode 1 for remote temperature sensing."

## MAX1298BEAE+
designator U?
Serial-Output Temperature Sensor with Five-Channel ADC, 12 Bits Temperature Resolution, -40 to 85 degC, 16-Pin SOP (A16+3), Pb-Free; Generic Part Number: MAX1298B; PartNumber: MAX1298BEAE+; Interface: 3-Wire/SPI; Parasite Pwr.: No; DatasheetVersion: Rev. 1; PackageVersion: Rev. C, 02/2010; PackageReference: A16+3; PackageDescription: 16-Pin Shrink Small-Outline Package, Body 5.29 x 6.2 mm, Pitch 0.65 mm; Supplier 1: Mouser; Supplier Part Number 1: N/A; Mounting Technology: Surface Mount; Code_JEDEC: MO-150; ComponentLink1Description: Manufacturer URL; ComponentLink1URL: http://www.maximintegrated.com/; ComponentLink2Description: Datasheet; ComponentLink2URL: http://datasheets.maximintegrated.com/en/ds/MAX1298-MAX1299C.pdf; ComponentLink3Description: Package Specification; ComponentLink3URL: http://pdfserv.maximintegrated.com/package_dwgs/21-0056.PDF
footprint MAXM-A16+3_N (SOP, 16-Leads, Body 6.2x5.29mm, Pitch 0.65mm, IPC Medium Density)
footprint MAXM-A16+3_L (SOP, 16-Leads, Body 6.2x5.29mm, Pitch 0.65mm, IPC High Density)
footprint MAXM-A16+3_M (SOP, 16-Leads, Body 6.2x5.29mm, Pitch 0.65mm, IPC Low Density)
pins: 1 AIN1 (in) "Analog Input 1. Negative differential input relative to AIN0 or positive differential input relative to AIN5 (Table 5). Connect to the cathode of external diode 1 for remote temperature sensing", 2 SHO (out) "Shield Output. Used to suppress leakage currents at the anodes of remote temperature sensors (see Remote Diode Shielding). May also be connected to the shield of twisted-pair input cables used for remote temperature (See Datasheet)", 3 AIN2 (in) "Analog Input 2. Positive differential input relative to AIN3 or positive differential input relative to AIN5 (Table 5). Connect to the anode of external diode 2 for remote temperature sensing.", 4 AIN3 (in) "Analog Input 3. Negative differential input relative to AIN2 or positive differential input relative to AIN5 (Table 5). Connect to the cathode of external diode 2 for remote temperature sensing.", 5 AIN4 (in) "Analog input 4. Positive differential input relative to AIN5 (Table 5).", 6 GND (power) "Ground. Connect to pin 13.", 7 SSTRB (out) "Serial Strobe Output. SSTRB goes low at the beginning of an A/D conversion, and it goes high when the conversion is finished.", 8 ~{CS} (in) "Active-Low Chip Select. Data will not be clocked into DIN unless C\S\ is low. When C\S\ is high, DOUT is at high impedance.", 9 DOUT (hiz) "Serial Data Output. DOUT transitions on the falling edge of SCLK.", 10 DIN (in) "Serial Data Input. DIN latches data on the rising edge of SCLK. 11 SCLK Serial Clock Input. Clocks data in and out of the serial interface.", 11 SCLK (in) "Serial Clock Input. Clocks data in and out of the serial interface.", 12 VDD (power) "Positive Supply Voltage. Bypass with a 0.1uF capacitor to GND (pin 13).", 13 GND (power) "Ground (star ground)", 14 REF (io) "Reference-Buffer Output/ADC Reference Input. Reference voltage for A/D conversion. Bypass to GND (pin 13) with a 0.1uF capacitor. Select reference mode by writing to configuration byte (Table 2).", 15 AIN5 (in) "Analog Input 5. Negative differential input relative to AIN0-AIN4 (Table 5).", 16 AIN0 (in) "Analog Input 0. Positive differential input relative to AIN1 or positive differential input relative to AIN5 (Table 5). Connect to the anode of external diode 1 for remote temperature sensing."

## MAX1298BEAE+T
designator U?
Serial-Output Temperature Sensor with Five-Channel ADC, 12 Bits Temperature Resolution, -40 to 85 degC, 16-Pin SOP (A16+3), Pb-Free, Tape and Reel; Generic Part Number: MAX1298B; PartNumber: MAX1298BEAE+T; Interface: 3-Wire/SPI; Parasite Pwr.: No; DatasheetVersion: Rev. 1; PackageVersion: Rev. C, 02/2010; PackageReference: A16+3; PackageDescription: 16-Pin Shrink Small-Outline Package, Body 5.29 x 6.2 mm, Pitch 0.65 mm; Supplier 1: Mouser; Supplier Part Number 1: N/A; Packing: Tape and Reel; Mounting Technology: Surface Mount; Code_JEDEC: MO-150; ComponentLink1Description: Manufacturer URL; ComponentLink1URL: http://www.maximintegrated.com/; ComponentLink2Description: Datasheet; ComponentLink2URL: http://datasheets.maximintegrated.com/en/ds/MAX1298-MAX1299C.pdf; ComponentLink3Description: Package Specification; ComponentLink3URL: http://pdfserv.maximintegrated.com/package_dwgs/21-0056.PDF
footprint MAXM-A16+3_N (SOP, 16-Leads, Body 6.2x5.29mm, Pitch 0.65mm, IPC Medium Density)
footprint MAXM-A16+3_L (SOP, 16-Leads, Body 6.2x5.29mm, Pitch 0.65mm, IPC High Density)
footprint MAXM-A16+3_M (SOP, 16-Leads, Body 6.2x5.29mm, Pitch 0.65mm, IPC Low Density)
pins: 1 AIN1 (in) "Analog Input 1. Negative differential input relative to AIN0 or positive differential input relative to AIN5 (Table 5). Connect to the cathode of external diode 1 for remote temperature sensing", 2 SHO (out) "Shield Output. Used to suppress leakage currents at the anodes of remote temperature sensors (see Remote Diode Shielding). May also be connected to the shield of twisted-pair input cables used for remote temperature (See Datasheet)", 3 AIN2 (in) "Analog Input 2. Positive differential input relative to AIN3 or positive differential input relative to AIN5 (Table 5). Connect to the anode of external diode 2 for remote temperature sensing.", 4 AIN3 (in) "Analog Input 3. Negative differential input relative to AIN2 or positive differential input relative to AIN5 (Table 5). Connect to the cathode of external diode 2 for remote temperature sensing.", 5 AIN4 (in) "Analog input 4. Positive differential input relative to AIN5 (Table 5).", 6 GND (power) "Ground. Connect to pin 13.", 7 SSTRB (out) "Serial Strobe Output. SSTRB goes low at the beginning of an A/D conversion, and it goes high when the conversion is finished.", 8 ~{CS} (in) "Active-Low Chip Select. Data will not be clocked into DIN unless C\S\ is low. When C\S\ is high, DOUT is at high impedance.", 9 DOUT (hiz) "Serial Data Output. DOUT transitions on the falling edge of SCLK.", 10 DIN (in) "Serial Data Input. DIN latches data on the rising edge of SCLK. 11 SCLK Serial Clock Input. Clocks data in and out of the serial interface.", 11 SCLK (in) "Serial Clock Input. Clocks data in and out of the serial interface.", 12 VDD (power) "Positive Supply Voltage. Bypass with a 0.1uF capacitor to GND (pin 13).", 13 GND (power) "Ground (star ground)", 14 REF (io) "Reference-Buffer Output/ADC Reference Input. Reference voltage for A/D conversion. Bypass to GND (pin 13) with a 0.1uF capacitor. Select reference mode by writing to configuration byte (Table 2).", 15 AIN5 (in) "Analog Input 5. Negative differential input relative to AIN0-AIN4 (Table 5).", 16 AIN0 (in) "Analog Input 0. Positive differential input relative to AIN1 or positive differential input relative to AIN5 (Table 5). Connect to the anode of external diode 1 for remote temperature sensing."

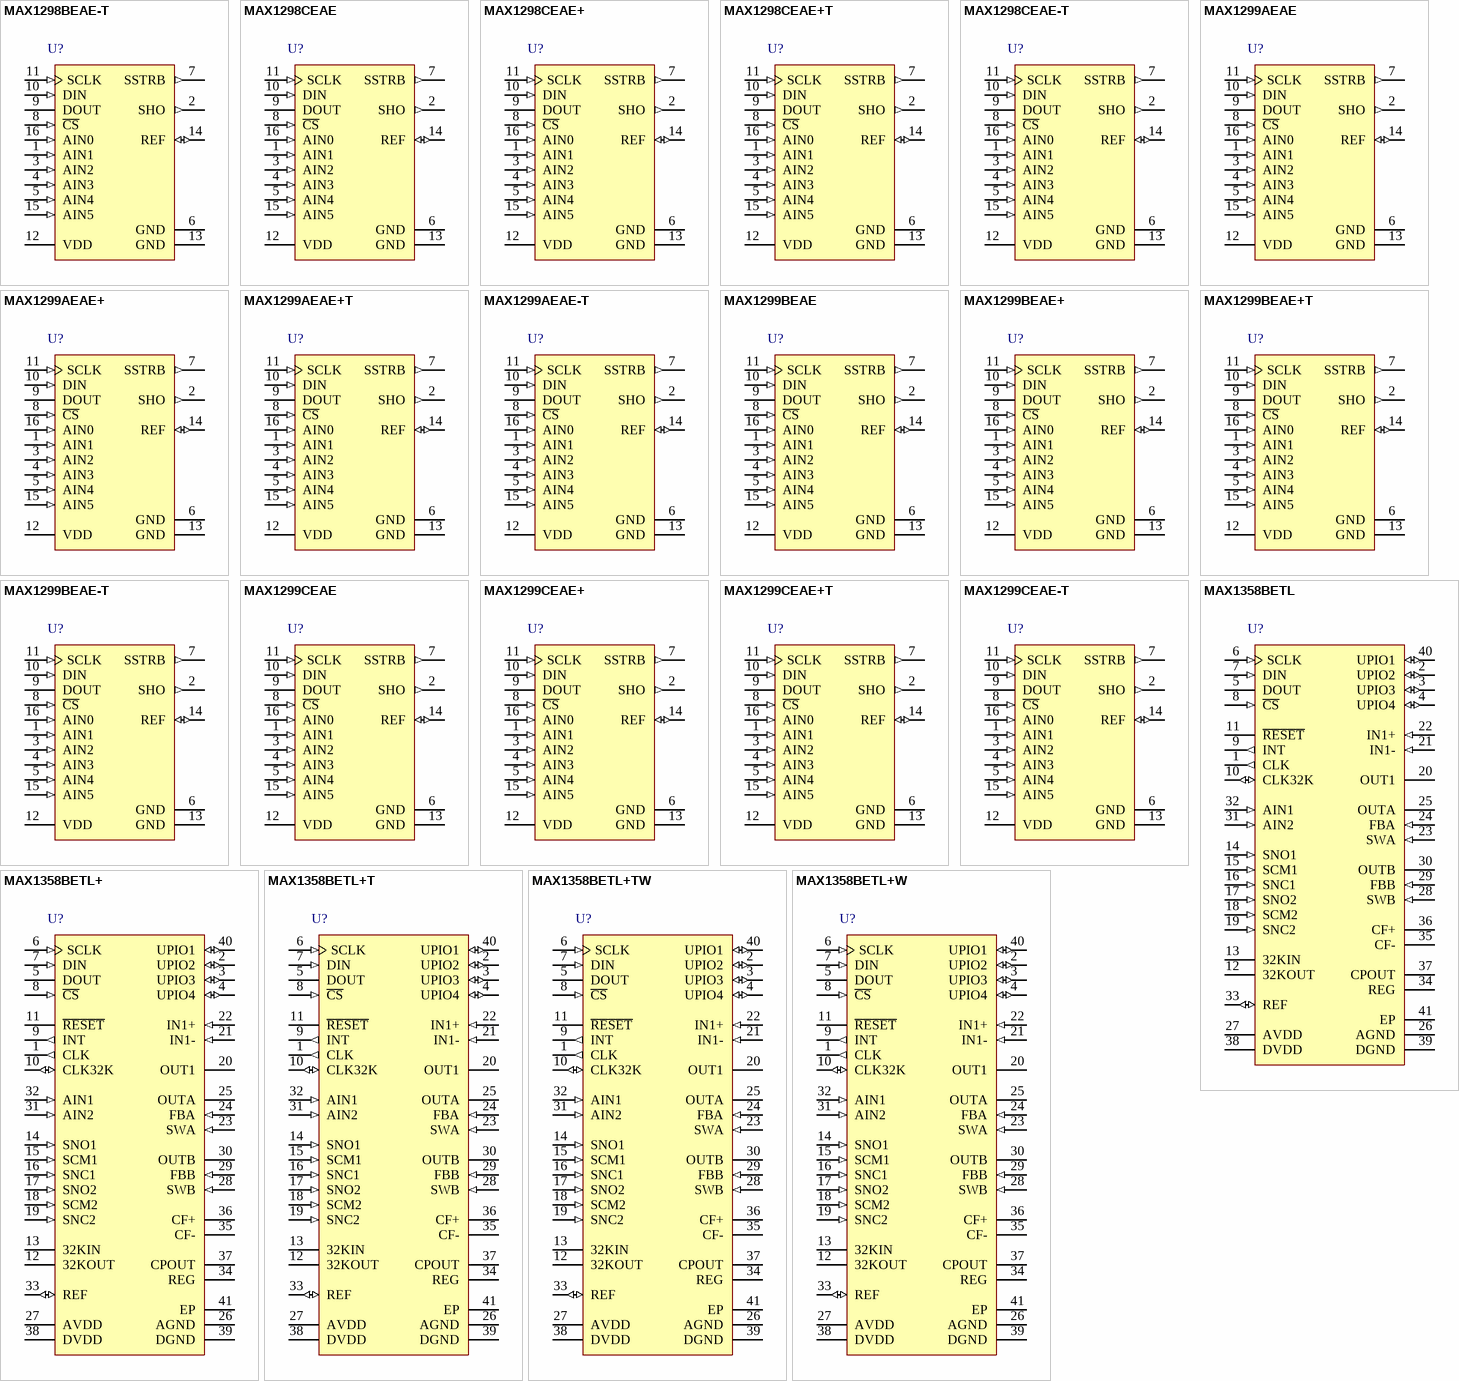
[diagram p5: symbols MAX1298BEAE-T to MAX1358BETL+W]